# Altium schematic symbol library MMBFJ112.SchLib: 1 symbol
Pins are listed as number, name and electrical type; pins without a type are passive.

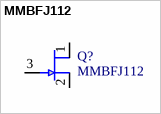
[diagram p0: symbol MMBFJ112]

## MMBFJ112
designator Q?
N-Channel Switch; Manufacturer_Name: onsemi; Geometry.Height: 1.11mm; Mouser Part Number: 512-MMBFJ112; Mouser Price/Stock: https://www.mouser.co.uk/ProductDetail/onsemi-Fairchild/MMBFJ112?qs=ljbEvF4DwOPc5qOoeoX%252BEQ%3D%3D; Manufacturer_Part_Number: MMBFJ112; Datasheet Link: http://www.onsemi.com/pub/Collateral/MMBFJ113-D.PDF
footprint SOT95P237X111-3N
pins: 1 D, 2 S, 3 G